# Altium schematic symbol library Samsung-MLCC-1206.SchLib: 4 symbols
Pins are listed as number, name and electrical type; pins without a type are passive.

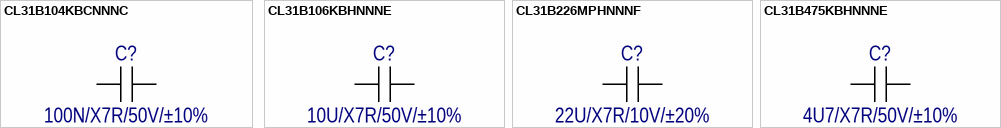
[diagram p0: symbols CL31B104KBCNNNC to CL31B475KBHNNNE]

## CL31B104KBCNNNC
designator C?  value 100N/X7R/50V/±10%  (hidden comment: *)
Ceramic Capacitor SMD 1206; Manufacturer: SAMSUNG ELECTRO-MECHANICS
footprint Normal_Capacitor_Standard_1206-L3200-W1600-BW1250-H1600
footprint Normal_Capacitor_Standard_1206-L3200-W1600-BW1250-H1600 - OVERLAY
pins: 1, 2

## CL31B106KBHNNNE
designator C?  value 10U/X7R/50V/±10%  (hidden comment: *)
Ceramic Capacitor SMD 1206; Manufacturer: SAMSUNG ELECTRO-MECHANICS
footprint Normal_Capacitor_Standard_1206-L3200-W1600-BW1250-H1600
footprint Normal_Capacitor_Standard_1206-L3200-W1600-BW1250-H1600 - OVERLAY
pins: 1, 2

## CL31B226MPHNNNF
designator C?  value 22U/X7R/10V/±20%  (hidden comment: *)
Ceramic Capacitor SMD 1206; Manufacturer: SAMSUNG ELECTRO-MECHANICS
footprint Normal_Capacitor_Standard_1206-L3200-W1600-BW1250-H1600
footprint Normal_Capacitor_Standard_1206-L3200-W1600-BW1250-H1600 - OVERLAY
pins: 1, 2

## CL31B475KBHNNNE
designator C?  value 4U7/X7R/50V/±10%  (hidden comment: *)
Ceramic Capacitor SMD 1206; Manufacturer: SAMSUNG ELECTRO-MECHANICS
footprint Normal_Capacitor_Standard_1206-L3200-W1600-BW1250-H1600
footprint Normal_Capacitor_Standard_1206-L3200-W1600-BW1250-H1600 - OVERLAY
pins: 1, 2